# Altium schematic symbol library TPS79918DDCT.SchLib: 1 symbol
Pins are listed as number, name and electrical type; pins without a type are passive.

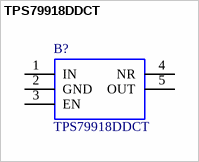
[diagram p0: symbol TPS79918DDCT]

## TPS79918DDCT
designator B?
TPS79918DDCT, Low Dropout Voltage Regulator, 0.2A, 1.8V 1%, 2.7 to 6.5Vin, 5-Pin SOT; Manufacturer_Name: Texas Instruments; Geometry.Height: 1.1mm; Manufacturer_Part_Number: TPS79918DDCT; RS Part Number: 1455973; RS Price/Stock: http://uk.rs-online.com/web/p/products/1455973; Mouser Part Number: 595-TPS79918DDCT; Mouser Price/Stock: https://www.mouser.com/Search/Refine.aspx?Keyword=595-TPS79918DDCT; Datasheet Link: http://www.ti.com/lit/ds/symlink/tps79918.pdf
footprint SOT95P280X110-5N
pins: 1 IN, 2 GND, 3 EN, 4 NR, 5 OUT